# EAGLE library part IN-12* (library Parts)
ニキシー管
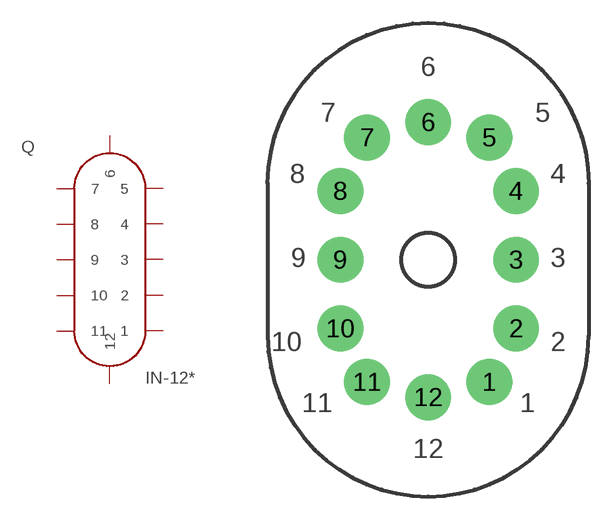
[diagram p5: symbol with the pads of IN-12; footprint IN-12]

Designator prefix Q

## IN-12B  [IN-12]
1  1  pas
2  2  pas
3  3  pas
4  4  pas
5  5  pas
6  6  pas
7  7  pas
8  8  pas
9  9  pas
10  10  pas
11  11  pas
12  12  pas

## Footprint IN-12 (pad centres in mm)
IN-12 専用接続ピン（2mm hole）取付用パターン
drill 2: 1 4,-8; 2 5.75,-4.5; 3 5.75,0; 4 5.75,4.5; 5 4,8; 6 0,9; 7 -4,8; 8 -5.75,4.5; 9 -5.75,0; 10 -5.75,-4.5; 11 -4,-8; 12 0,-9